# Altium footprint library 1571626-2-Footprint-1.PcbLib: 1 footprints
Each footprint in its own frame and in the unit in brackets; x right, y up, seen from the top. Pads: shape width x height; smd on the part's side, far side on the other; paste and mask are expansions set on the pad; w line width, h text height; cw(c..) or ccw(c..) is an arc to the next point about the centre after c.
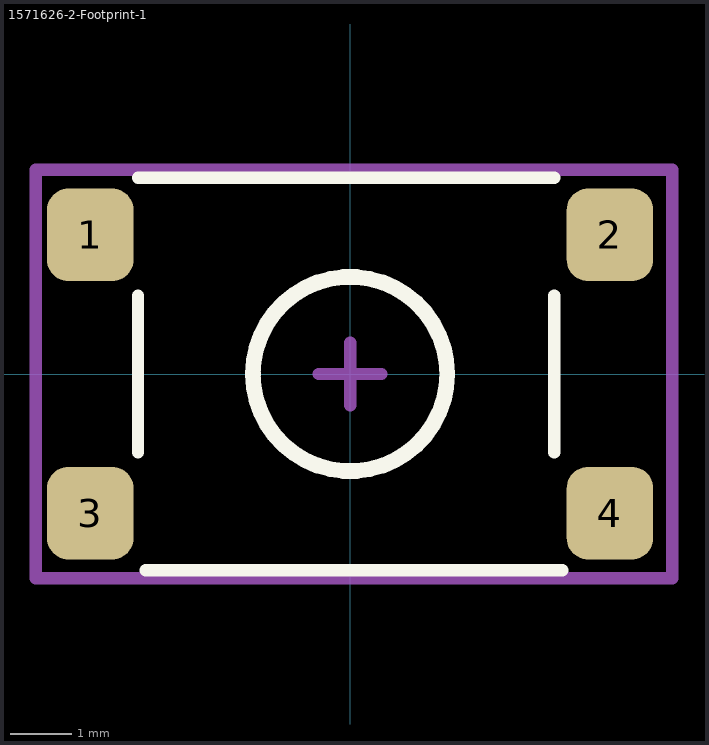
[diagram p0: the footprint, top view; thin cyan lines are the x and y axes]

## 1571626-2-Footprint-1 [mm]
pads (4):
  rrect50% 1.4x1.5 smd: 1(-4.2,2.25) 2(4.2,2.25) 3(-4.2,-2.25) 4(4.2,-2.25)
Top Overlay:
  circle w0.254: c0,0 r1.571
  lines w0.2: -3.429,-1.27 -3.429,1.27 ; -3.429,3.175 3.302,3.175 ; -3.302,-3.175 3.429,-3.175 ; 3.302,-1.27 3.302,1.27
Mechanical 15:
  lines w0.2: -4.953,-3.302 -5.08,-3.302 ; -0.508,0 0,0 ; 0,-0.508 0,0 ; 0,0.508 0,0 ; 0.508,0 0,0 ; -5.08,-3.302 5.207,-3.302 5.207,3.302 -5.08,3.302 -5.08,-3.302
Mechanical 17:
  text "'.Designator'" at -4.318,-0.127 h0.8
3D body "User Library-222CMVABR.STEP": height 2.5, standoff 0, extent -4,-3.2 4,3.2